# Altium schematic symbol library 530481410.SchLib: 1 symbol
Pins are listed as number, name and electrical type; pins without a type are passive.

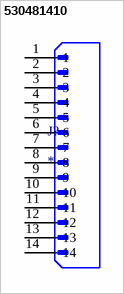
[diagram p0: symbol 530481410]

## 530481410
designator J?
MP: 530481410; Value: *; Package: None; Availability: Unavailable; Price: None
footprint MOLEX_530481410
pins: 1, 2, 3, 4, 5, 6, 7, 8, 9, 10, 11, 12, 13, 14